# Altium integrated library NSC Converter Analog to Digital.IntLib: 246 symbols (part 5 of 7)
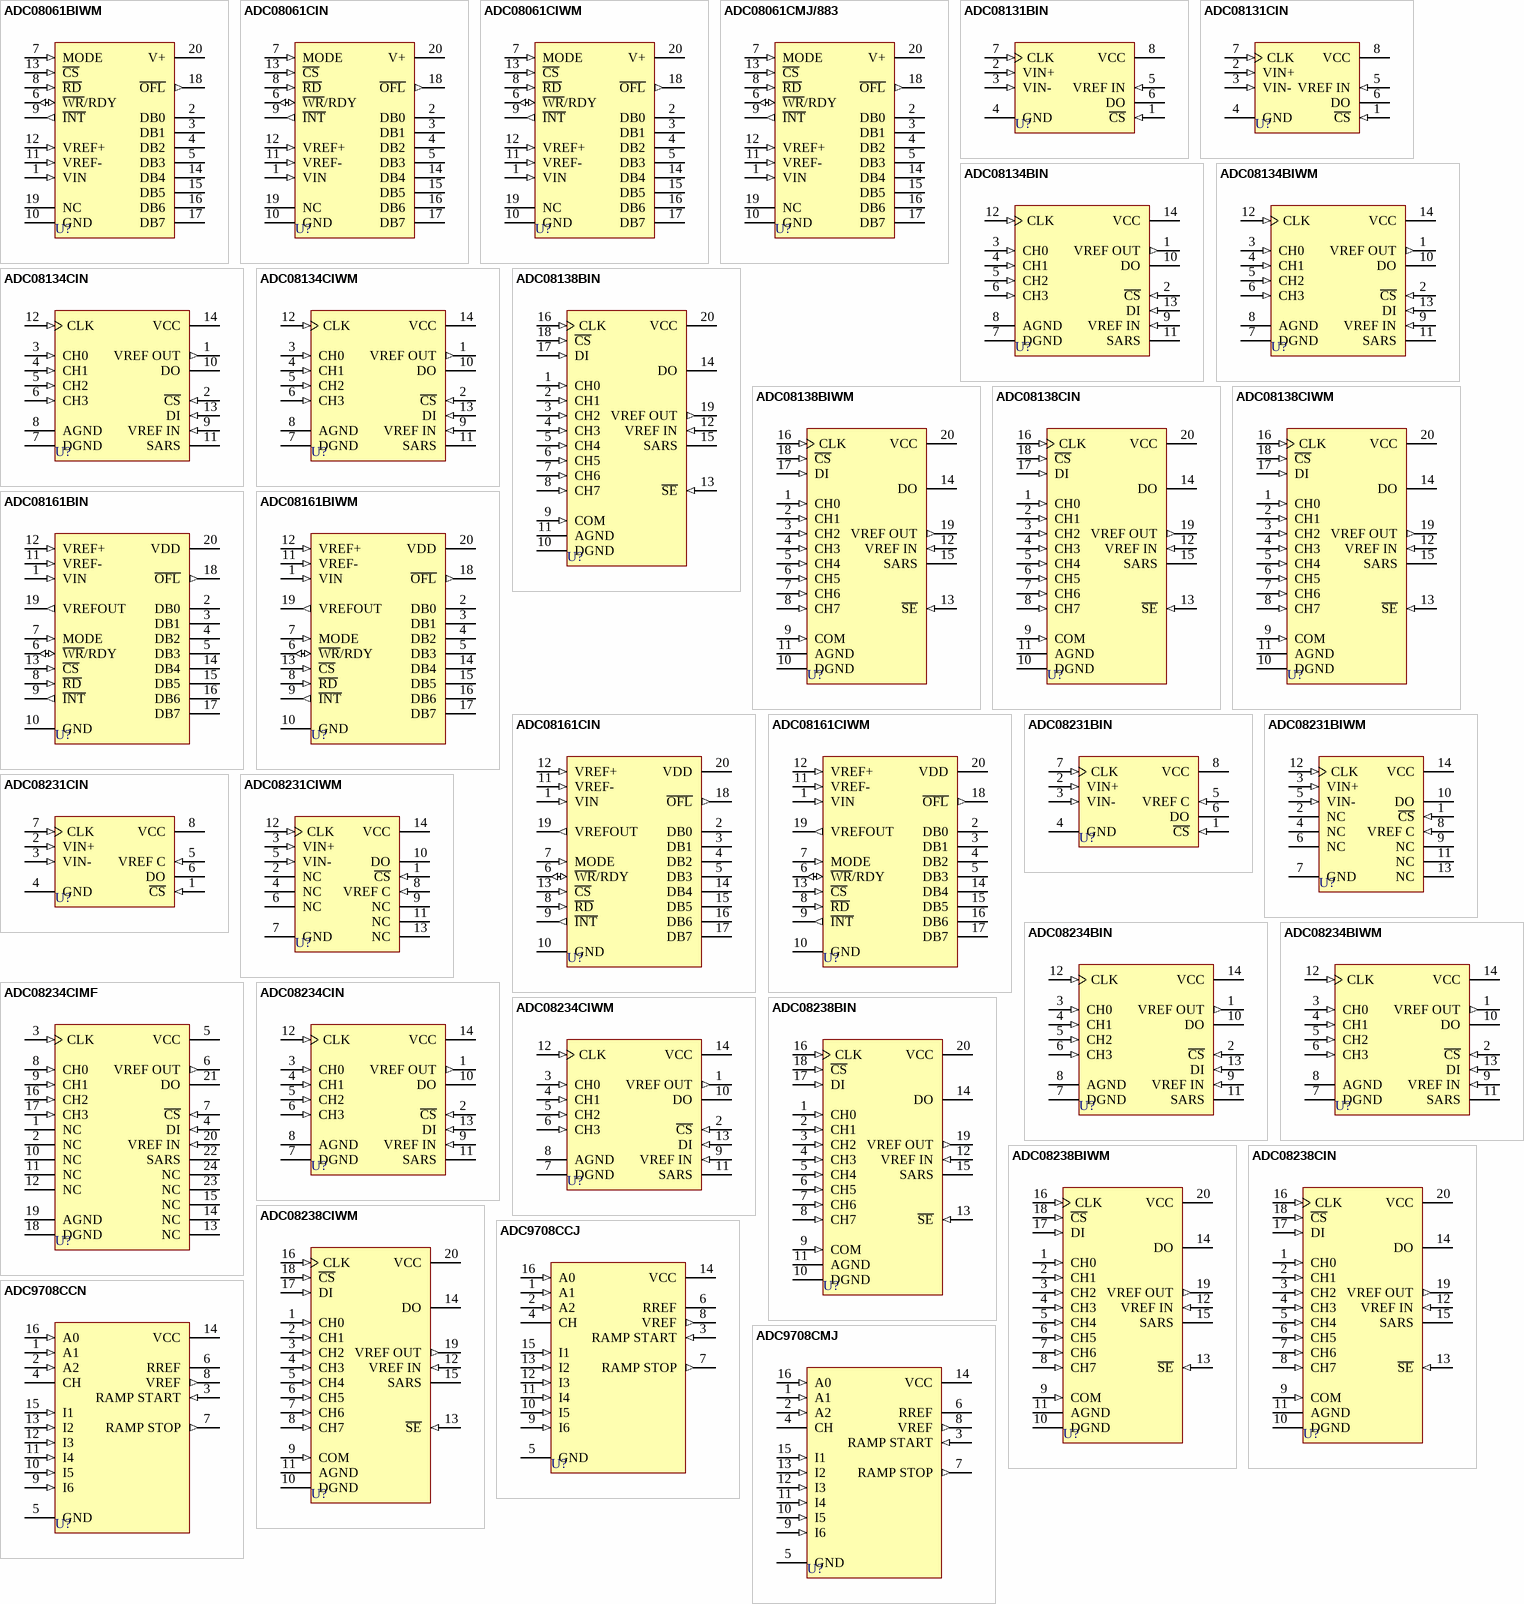
[diagram p13: symbols ADC08061BIWM to ADC9708CMJ]

## ADC08234BIWM
designator U?
8-Bit 2 µs Serial I/O A/D Converter with MUX, Reference and Track/Hold; ComponentAvailability: Obsolete; Published: 15-Apr-2002; LatestRevisionDate: 13-Apr-2006; LatestRevisionNote: IPC-7351 Footprint Added.; DatasheetVersion: Dec-1994; PackageVersion: 2000; PackageReference: M14B; Publisher: Altium Limited; PackageDescription: 14-Pin Small Outline Integrated Circuit 1.27 mm Pitch; Code_JEDEC: MS-013-AF; Code_IPC: SOIC127P1030-14; ComponentLink1Description: Manufacturer Link; ComponentLink1URL: http://www.national.com/; ComponentLink2Description: Datasheet; ComponentLink2URL: http://www.national.com/ds.cgi/DC/ADC08231.pdf; ComponentLink3Description: Discontinuation Notice; ComponentLink3URL: http://www.national.com/obs/obsolescence.txt; ComponentLink4Description: URL Link1; ComponentLink4URL: http://www.national.com/pf/DC/ADC08234.html
footprint M14B_N (SOIC, 14-Leads, Body 9x7.5mm, Pitch 1.27mm, IPC Medium Density)
footprint M14B_L (SOIC, 14-Leads, Body 9x7.5mm, Pitch 1.27mm, IPC High Density)
footprint M14B_M (SOIC, 14-Leads, Body 9x7.5mm, Pitch 1.27mm, IPC Low Density)
3D model M14B (14-Pin Small Outline Integrated Circuit 1.27 mm Pitch)
pins: 1 VREF OUT (out), 2 ~{CS} (in), 3 CH0 (in), 4 CH1 (in), 5 CH2 (in), 6 CH3 (in), 7 DGND (power), 8 AGND (power), 9 VREF IN (in), 10 DO (hiz), 11 SARS (hiz), 12 CLK (in), 13 DI (in), 14 VCC (power)

## ADC08234CIMF
designator U?
8-Bit 2 µs Serial I/O A/D Converter with MUX, Reference and Track/Hold; ComponentAvailability: Obsolete; Published: 15-Apr-2002; LatestRevisionDate: 06-Jun-2005; LatestRevisionNote: Stylized 3D Model Added.; DatasheetVersion: Dec-1994; PackageVersion: 2000; PackageReference: MTB24; Publisher: Altium Limited; PackageDescription: SSOP; 24 Leads; Body Width 5.6 mm; Pitch 0.65 mm; ComponentLink1Description: Manufacturer Link; ComponentLink1URL: http://www.national.com/; ComponentLink2Description: Datasheet; ComponentLink2URL: http://www.national.com/ds.cgi/DC/ADC08231.pdf; ComponentLink3Description: Discontinuation Notice; ComponentLink3URL: http://www.national.com/obs/obsolescence.txt; ComponentLink4Description: URL Link1; ComponentLink4URL: http://www.national.com/pf/DC/ADC08234.html
footprint MTB24 (SSOP; 24 Leads; Body Width 5.6 mm; Pitch 0.65 mm)
3D model MTB24 (SSOP; 24 Leads; Body Width 5.6 mm; Pitch 0.65 mm)
pins: 1 NC, 2 NC, 3 CLK (in), 4 DI (in), 5 VCC (power), 6 VREF OUT (out), 7 ~{CS} (in), 8 CH0 (in), 9 CH1 (in), 10 NC, 11 NC, 12 NC, 13 NC, 14 NC, 15 NC, 16 CH2 (in), 17 CH3 (in), 18 DGND (power), 19 AGND (power), 20 VREF IN (in), 21 DO (hiz), 22 SARS (hiz), 23 NC, 24 NC

## ADC08234CIN
designator U?
8-Bit 2 µs Serial I/O A/D Converter with MUX, Reference and Track/Hold; ComponentAvailability: Obsolete; Published: 15-Apr-2002; LatestRevisionDate: 06-Jun-2005; LatestRevisionNote: Stylized 3D Model Added.; DatasheetVersion: Dec-1994; PackageVersion: 2000; PackageReference: N14A; Publisher: Altium Limited; PackageDescription: DIP; 14 Leads; Row Spacing 7.62 mm; Pitch 2.54 mm; ComponentLink1Description: Manufacturer Link; ComponentLink1URL: http://www.national.com/; ComponentLink2Description: Datasheet; ComponentLink2URL: http://www.national.com/ds.cgi/DC/ADC08231.pdf; ComponentLink3Description: Discontinuation Notice; ComponentLink3URL: http://www.national.com/obs/obsolescence.txt; ComponentLink4Description: URL Link1; ComponentLink4URL: http://www.national.com/pf/DC/ADC08234.html
footprint N14A (DIP; 14 Leads; Row Spacing 7.62 mm; Pitch 2.54 mm)
3D model N14A (DIP; 14 Leads; Row Spacing 7.62 mm; Pitch 2.54 mm)
pins: 1 VREF OUT (out), 2 ~{CS} (in), 3 CH0 (in), 4 CH1 (in), 5 CH2 (in), 6 CH3 (in), 7 DGND (power), 8 AGND (power), 9 VREF IN (in), 10 DO (hiz), 11 SARS (hiz), 12 CLK (in), 13 DI (in), 14 VCC (power)

## ADC08234CIWM
designator U?
8-Bit 2 µs Serial I/O A/D Converter with MUX, Reference and Track/Hold; ComponentAvailability: Obsolete; Published: 15-Apr-2002; LatestRevisionDate: 13-Apr-2006; LatestRevisionNote: IPC-7351 Footprint Added.; DatasheetVersion: Dec-1994; PackageVersion: 2000; PackageReference: M14B; Publisher: Altium Limited; PackageDescription: 14-Pin Small Outline Integrated Circuit 1.27 mm Pitch; Code_JEDEC: MS-013-AF; Code_IPC: SOIC127P1030-14; ComponentLink1Description: Manufacturer Link; ComponentLink1URL: http://www.national.com/; ComponentLink2Description: Datasheet; ComponentLink2URL: http://www.national.com/ds.cgi/DC/ADC08231.pdf; ComponentLink3Description: Discontinuation Notice; ComponentLink3URL: http://www.national.com/obs/obsolescence.txt; ComponentLink4Description: URL Link1; ComponentLink4URL: http://www.national.com/pf/DC/ADC08234.html
footprint M14B_N (SOIC, 14-Leads, Body 9x7.5mm, Pitch 1.27mm, IPC Medium Density)
footprint M14B_L (SOIC, 14-Leads, Body 9x7.5mm, Pitch 1.27mm, IPC High Density)
footprint M14B_M (SOIC, 14-Leads, Body 9x7.5mm, Pitch 1.27mm, IPC Low Density)
3D model M14B (14-Pin Small Outline Integrated Circuit 1.27 mm Pitch)
pins: 1 VREF OUT (out), 2 ~{CS} (in), 3 CH0 (in), 4 CH1 (in), 5 CH2 (in), 6 CH3 (in), 7 DGND (power), 8 AGND (power), 9 VREF IN (in), 10 DO (hiz), 11 SARS (hiz), 12 CLK (in), 13 DI (in), 14 VCC (power)

## ADC08238BIN
designator U?
8-Bit 2 µs Serial I/O A/D Converter with MUX, Reference and Track/Hold; Published: 15-Apr-2002; LatestRevisionDate: 06-Jun-2005; LatestRevisionNote: Stylized 3D Model Added.; DatasheetVersion: Dec-1994; PackageVersion: 2000; PackageReference: N20A; Publisher: Altium Limited; PackageDescription: DIP; 20 Leads; Row Spacing 7.62 mm; Pitch 2.54 mm; Code_JEDEC: MS-001-AD; ComponentLink1Description: Manufacturer Link; ComponentLink1URL: http://www.national.com/; ComponentLink2Description: Datasheet; ComponentLink2URL: http://www.national.com/ds.cgi/DC/ADC08231.pdf; ComponentLink3Description: URL Link1; ComponentLink3URL: http://www.national.com/pf/DC/ADC08238.html
footprint N20A (DIP; 20 Leads; Row Spacing 7.62 mm; Pitch 2.54 mm)
3D model N20A (DIP; 20 Leads; Row Spacing 7.62 mm; Pitch 2.54 mm)
pins: 1 CH0 (in), 2 CH1 (in), 3 CH2 (in), 4 CH3 (in), 5 CH4 (in), 6 CH5 (in), 7 CH6 (in), 8 CH7 (in), 9 COM (in), 10 DGND (power), 11 AGND (power), 12 VREF IN (in), 13 ~{SE} (in), 14 DO (hiz), 15 SARS (hiz), 16 CLK (in), 17 DI (in), 18 ~{CS} (in), 19 VREF OUT (out), 20 VCC (power)

## ADC08238BIWM
designator U?
8-Bit 2 µs Serial I/O A/D Converter with MUX, Reference and Track/Hold; ComponentAvailability: Obsolete; Published: 15-Apr-2002; LatestRevisionDate: 13-Apr-2006; LatestRevisionNote: IPC-7351 Footprint Added.; DatasheetVersion: Dec-1994; PackageVersion: 2000; PackageReference: M20B; Publisher: Altium Limited; PackageDescription: 20-Pin Small Outline Integrated Circuit 1.27 mm Pitch; Code_JEDEC: MS-013-AC; Code_IPC: SOIC127P1030-20; ComponentLink1Description: Manufacturer Link; ComponentLink1URL: http://www.national.com/; ComponentLink2Description: Datasheet; ComponentLink2URL: http://www.national.com/ds.cgi/DC/ADC08231.pdf; ComponentLink3Description: Discontinuation Notice; ComponentLink3URL: http://www.national.com/obs/obsolescence.txt; ComponentLink4Description: URL Link1; ComponentLink4URL: http://www.national.com/pf/DC/ADC08238.html
footprint M20B_N (SOIC, 20-Leads, Body 12.8x7.5mm, Pitch 1.27mm, IPC Medium Density)
footprint M20B_L (SOIC, 20-Leads, Body 12.8x7.5mm, Pitch 1.27mm, IPC High Density)
footprint M20B_M (SOIC, 20-Leads, Body 12.8x7.5mm, Pitch 1.27mm, IPC Low Density)
3D model M20B (20-Pin Small Outline Integrated Circuit 1.27 mm Pitch)
pins: 1 CH0 (in), 2 CH1 (in), 3 CH2 (in), 4 CH3 (in), 5 CH4 (in), 6 CH5 (in), 7 CH6 (in), 8 CH7 (in), 9 COM (in), 10 DGND (power), 11 AGND (power), 12 VREF IN (in), 13 ~{SE} (in), 14 DO (hiz), 15 SARS (hiz), 16 CLK (in), 17 DI (in), 18 ~{CS} (in), 19 VREF OUT (out), 20 VCC (power)

## ADC08238CIN
designator U?
8-Bit 2 µs Serial I/O A/D Converter with MUX, Reference and Track/Hold; ComponentAvailability: Obsolete; Published: 15-Apr-2002; LatestRevisionDate: 06-Jun-2005; LatestRevisionNote: Stylized 3D Model Added.; DatasheetVersion: Dec-1994; PackageVersion: 2000; PackageReference: N20A; Publisher: Altium Limited; PackageDescription: DIP; 20 Leads; Row Spacing 7.62 mm; Pitch 2.54 mm; Code_JEDEC: MS-001-AD; ComponentLink1Description: Manufacturer Link; ComponentLink1URL: http://www.national.com/; ComponentLink2Description: Datasheet; ComponentLink2URL: http://www.national.com/ds.cgi/DC/ADC08231.pdf; ComponentLink3Description: Discontinuation Notice; ComponentLink3URL: http://www.national.com/obs/obsolescence.txt; ComponentLink4Description: URL Link1; ComponentLink4URL: http://www.national.com/pf/DC/ADC08238.html
footprint N20A (DIP; 20 Leads; Row Spacing 7.62 mm; Pitch 2.54 mm)
3D model N20A (DIP; 20 Leads; Row Spacing 7.62 mm; Pitch 2.54 mm)
pins: 1 CH0 (in), 2 CH1 (in), 3 CH2 (in), 4 CH3 (in), 5 CH4 (in), 6 CH5 (in), 7 CH6 (in), 8 CH7 (in), 9 COM (in), 10 DGND (power), 11 AGND (power), 12 VREF IN (in), 13 ~{SE} (in), 14 DO (hiz), 15 SARS (hiz), 16 CLK (in), 17 DI (in), 18 ~{CS} (in), 19 VREF OUT (out), 20 VCC (power)

## ADC08238CIWM
designator U?
8-Bit 2 µs Serial I/O A/D Converter with MUX, Reference and Track/Hold; ComponentAvailability: Obsolete; Published: 15-Apr-2002; LatestRevisionDate: 13-Apr-2006; LatestRevisionNote: IPC-7351 Footprint Added.; DatasheetVersion: Dec-1994; PackageVersion: 2000; PackageReference: M20B; Publisher: Altium Limited; PackageDescription: 20-Pin Small Outline Integrated Circuit 1.27 mm Pitch; Code_JEDEC: MS-013-AC; Code_IPC: SOIC127P1030-20; ComponentLink1Description: Manufacturer Link; ComponentLink1URL: http://www.national.com/; ComponentLink2Description: Datasheet; ComponentLink2URL: http://www.national.com/ds.cgi/DC/ADC08231.pdf; ComponentLink3Description: Discontinuation Notice; ComponentLink3URL: http://www.national.com/obs/obsolescence.txt; ComponentLink4Description: URL Link1; ComponentLink4URL: http://www.national.com/pf/DC/ADC08238.html
footprint M20B_N (SOIC, 20-Leads, Body 12.8x7.5mm, Pitch 1.27mm, IPC Medium Density)
footprint M20B_L (SOIC, 20-Leads, Body 12.8x7.5mm, Pitch 1.27mm, IPC High Density)
footprint M20B_M (SOIC, 20-Leads, Body 12.8x7.5mm, Pitch 1.27mm, IPC Low Density)
3D model M20B (20-Pin Small Outline Integrated Circuit 1.27 mm Pitch)
pins: 1 CH0 (in), 2 CH1 (in), 3 CH2 (in), 4 CH3 (in), 5 CH4 (in), 6 CH5 (in), 7 CH6 (in), 8 CH7 (in), 9 COM (in), 10 DGND (power), 11 AGND (power), 12 VREF IN (in), 13 ~{SE} (in), 14 DO (hiz), 15 SARS (hiz), 16 CLK (in), 17 DI (in), 18 ~{CS} (in), 19 VREF OUT (out), 20 VCC (power)

## ADC9708CCJ
designator U?
6-Channel 8-Bit µP-Compatible A/D Converter; ComponentAvailability: Obsolete; Published: 15-Apr-2002; LatestRevisionDate: 06-Jun-2005; LatestRevisionNote: Stylized 3D Model Added.; DatasheetVersion: Oct-1991; PackageVersion: 2000; PackageReference: J16A; Publisher: Altium Limited; PackageDescription: DIP; 16 Leads; Row Spacing 7.62 mm; Pitch 2.54 mm; ComponentLink1Description: Manufacturer Link; ComponentLink1URL: http://www.national.com/; ComponentLink2Description: Datasheet; ComponentLink2URL: http://www.national.com/ds.cgi/DC/ADC9708.pdf; ComponentLink3Description: Discontinuation Notice; ComponentLink3URL: http://www.national.com/obs/obsolescence.txt; ComponentLink4Description: URL Link1; ComponentLink4URL: http://www.national.com/pf/DC/ADC9708.html
footprint J16A (DIP; 16 Leads; Row Spacing 7.62 mm; Pitch 2.54 mm)
3D model N16E (DIP; 16 Leads; Row Spacing 7.62 mm; Pitch 2.54 mm)
pins: 1 A1 (in), 2 A2 (in), 3 RAMP START (in), 4 CH, 5 GND (power), 6 RREF, 7 RAMP STOP (out), 8 VREF (out), 9 I6 (in), 10 I5 (in), 11 I4 (in), 12 I3 (in), 13 I2 (in), 14 VCC (power), 15 I1 (in), 16 A0 (in)

## ADC9708CCN
designator U?
6-Channel 8-Bit µP-Compatible A/D Converter; ComponentAvailability: Obsolete; Published: 15-Apr-2002; LatestRevisionDate: 06-Jun-2005; LatestRevisionNote: Stylized 3D Model Added.; DatasheetVersion: Oct-1991; PackageVersion: 2000; PackageReference: N16E; Publisher: Altium Limited; PackageDescription: DIP; 16 Leads; Row Spacing 7.62 mm; Pitch 2.54 mm; ComponentLink1Description: Manufacturer Link; ComponentLink1URL: http://www.national.com/; ComponentLink2Description: Datasheet; ComponentLink2URL: http://www.national.com/ds.cgi/DC/ADC9708.pdf; ComponentLink3Description: Discontinuation Notice; ComponentLink3URL: http://www.national.com/obs/obsolescence.txt; ComponentLink4Description: URL Link1; ComponentLink4URL: http://www.national.com/pf/DC/ADC9708.html
footprint N16E (DIP; 16 Leads; Row Spacing 7.62 mm; Pitch 2.54 mm)
3D model N16E (DIP; 16 Leads; Row Spacing 7.62 mm; Pitch 2.54 mm)
pins: 1 A1 (in), 2 A2 (in), 3 RAMP START (in), 4 CH, 5 GND (power), 6 RREF, 7 RAMP STOP (out), 8 VREF (out), 9 I6 (in), 10 I5 (in), 11 I4 (in), 12 I3 (in), 13 I2 (in), 14 VCC (power), 15 I1 (in), 16 A0 (in)

## ADC9708CMJ
designator U?
6-Channel 8-Bit µP-Compatible A/D Converter; ComponentAvailability: Obsolete; Published: 15-Apr-2002; LatestRevisionDate: 06-Jun-2005; LatestRevisionNote: Stylized 3D Model Added.; DatasheetVersion: Oct-1991; PackageVersion: 2000; PackageReference: J16A; Publisher: Altium Limited; PackageDescription: DIP; 16 Leads; Row Spacing 7.62 mm; Pitch 2.54 mm; ComponentLink1Description: Manufacturer Link; ComponentLink1URL: http://www.national.com/; ComponentLink2Description: Datasheet; ComponentLink2URL: http://www.national.com/ds.cgi/DC/ADC9708.pdf; ComponentLink3Description: Discontinuation Notice; ComponentLink3URL: http://www.national.com/obs/obsolescence.txt; ComponentLink4Description: URL Link1; ComponentLink4URL: http://www.national.com/pf/DC/ADC9708.html
footprint J16A (DIP; 16 Leads; Row Spacing 7.62 mm; Pitch 2.54 mm)
3D model N16E (DIP; 16 Leads; Row Spacing 7.62 mm; Pitch 2.54 mm)
pins: 1 A1 (in), 2 A2 (in), 3 RAMP START (in), 4 CH, 5 GND (power), 6 RREF, 7 RAMP STOP (out), 8 VREF (out), 9 I6 (in), 10 I5 (in), 11 I4 (in), 12 I3 (in), 13 I2 (in), 14 VCC (power), 15 I1 (in), 16 A0 (in)

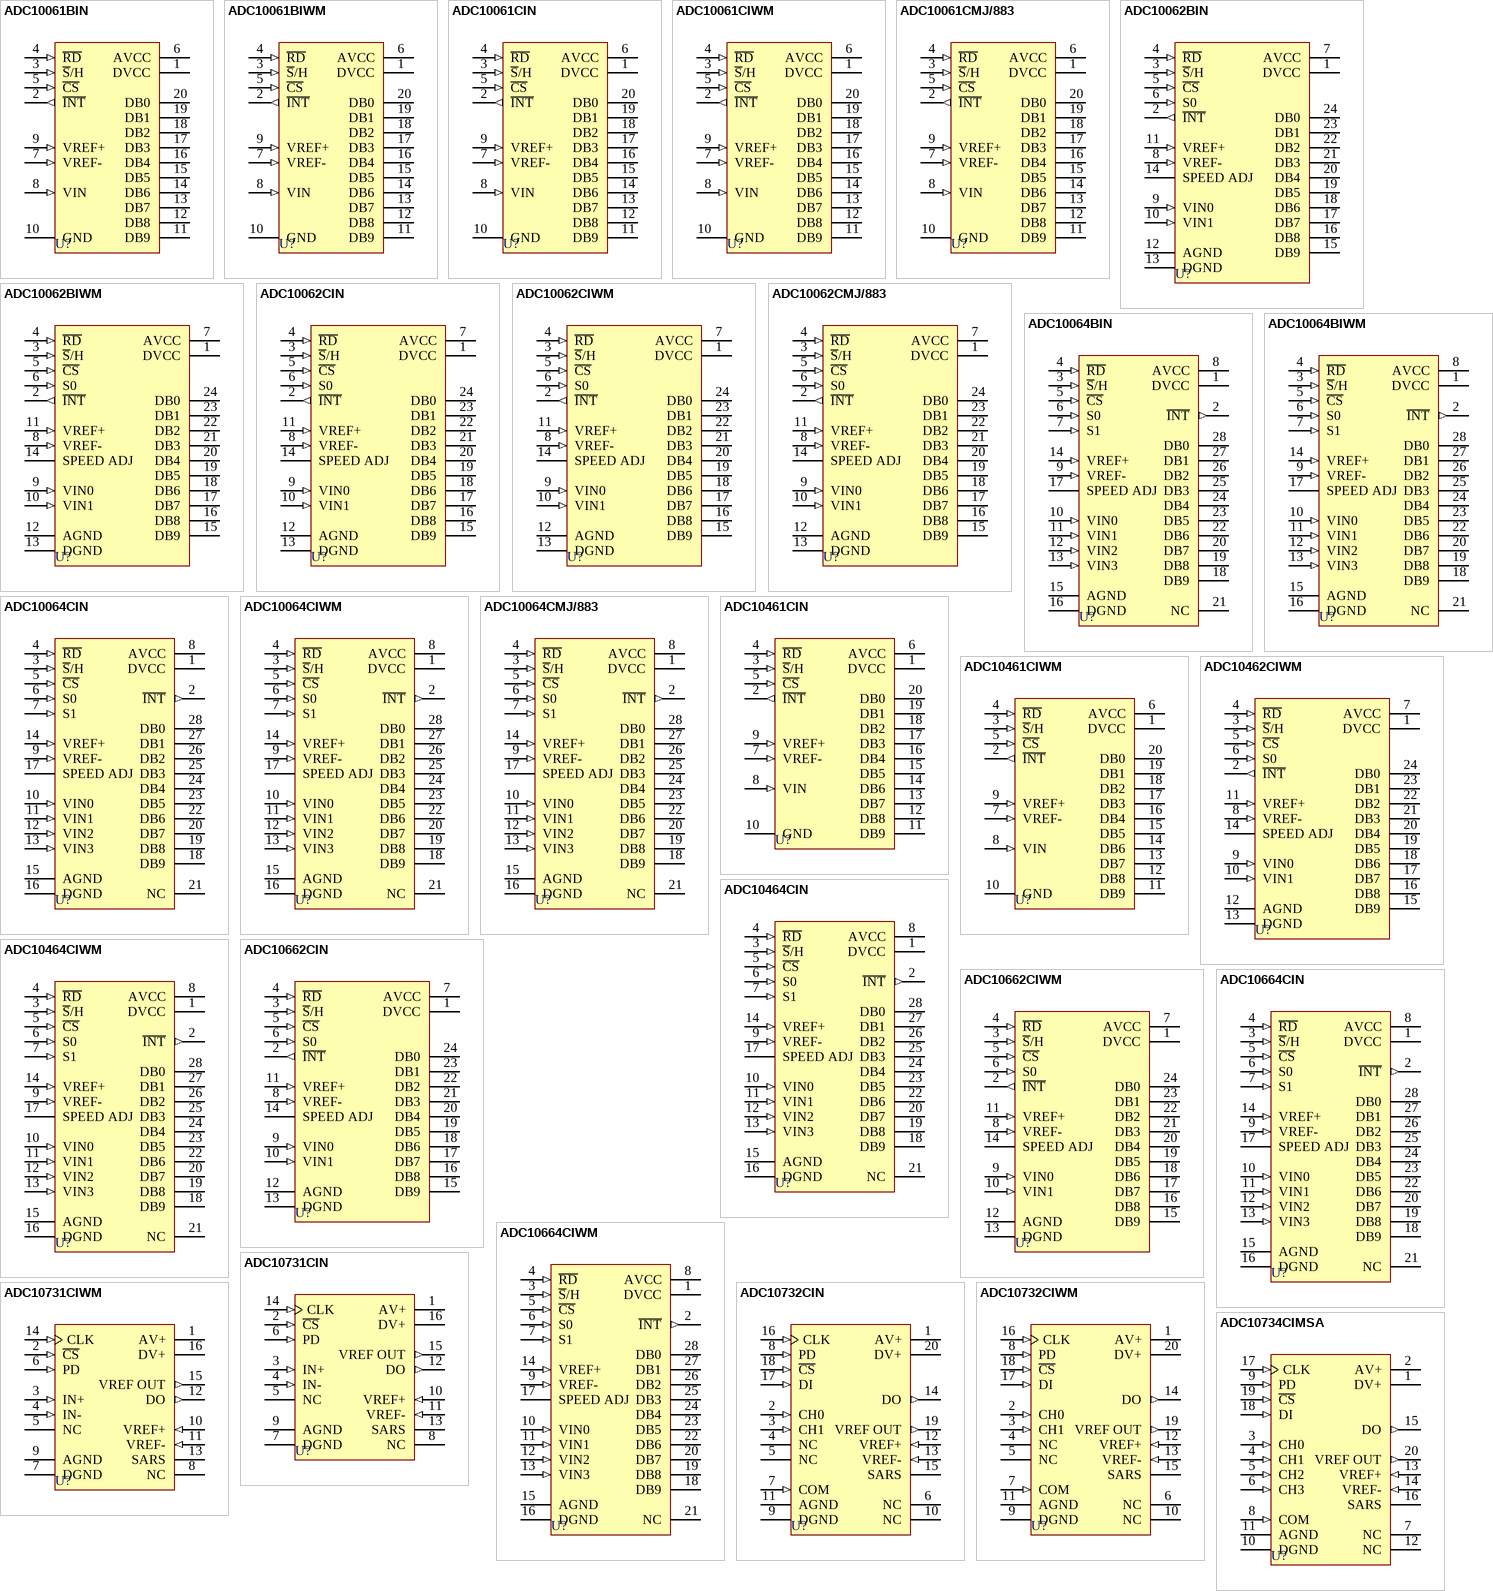
[diagram p6: symbols ADC10061BIN to ADC10734CIMSA]

## ADC10061BIN
designator U?
10-Bit 600 nS A/D Converter with Input Multiplexer and Sample/Hold; ComponentAvailability: Obsolete; Published: 15-Apr-2002; LatestRevisionDate: 06-Jun-2005; LatestRevisionNote: Stylized 3D Model Added.; DatasheetVersion: 1995; PackageVersion: 2000; PackageReference: N20A; Publisher: Altium Limited; PackageDescription: DIP; 20 Leads; Row Spacing 7.62 mm; Pitch 2.54 mm; Code_JEDEC: MS-001-AD; ComponentLink1Description: Manufacturer Link; ComponentLink1URL: http://www.national.com/; ComponentLink2Description: Datasheet; ComponentLink2URL: http://www.national.com/ds.cgi/DC/ADC10061.pdf; ComponentLink3Description: Discontinuation Notice; ComponentLink3URL: http://www.national.com/obs/obsolescence.txt; ComponentLink4Description: URL Link1; ComponentLink4URL: http://www.national.com/pf/DC/ADC10061.html
footprint N20A (DIP; 20 Leads; Row Spacing 7.62 mm; Pitch 2.54 mm)
3D model N20A (DIP; 20 Leads; Row Spacing 7.62 mm; Pitch 2.54 mm)
pins: 1 DVCC (power), 2 ~{INT} (out), 3 ~{S}/H (in), 4 ~{RD} (in), 5 ~{CS} (in), 6 AVCC (power), 7 VREF- (in), 8 VIN (in), 9 VREF+ (in), 10 GND (power), 11 DB9 (hiz), 12 DB8 (hiz), 13 DB7 (hiz), 14 DB6 (hiz), 15 DB5 (hiz), 16 DB4 (hiz), 17 DB3 (hiz), 18 DB2 (hiz), 19 DB1 (hiz), 20 DB0 (hiz)

## ADC10061BIWM
designator U?
10-Bit 600 nS A/D Converter with Input Multiplexer and Sample/Hold; ComponentAvailability: Obsolete; Published: 15-Apr-2002; LatestRevisionDate: 13-Apr-2006; LatestRevisionNote: IPC-7351 Footprint Added.; DatasheetVersion: 1995; PackageVersion: 2000; PackageReference: M20B; Publisher: Altium Limited; PackageDescription: 20-Pin Small Outline Integrated Circuit 1.27 mm Pitch; Code_JEDEC: MS-013-AC; Code_IPC: SOIC127P1030-20; ComponentLink1Description: Manufacturer Link; ComponentLink1URL: http://www.national.com/; ComponentLink2Description: Datasheet; ComponentLink2URL: http://www.national.com/ds.cgi/DC/ADC10061.pdf; ComponentLink3Description: Discontinuation Notice; ComponentLink3URL: http://www.national.com/obs/obsolescence.txt; ComponentLink4Description: URL Link1; ComponentLink4URL: http://www.national.com/pf/DC/ADC10061.html
footprint M20B_N (SOIC, 20-Leads, Body 12.8x7.5mm, Pitch 1.27mm, IPC Medium Density)
footprint M20B_L (SOIC, 20-Leads, Body 12.8x7.5mm, Pitch 1.27mm, IPC High Density)
footprint M20B_M (SOIC, 20-Leads, Body 12.8x7.5mm, Pitch 1.27mm, IPC Low Density)
3D model M20B (20-Pin Small Outline Integrated Circuit 1.27 mm Pitch)
pins: 1 DVCC (power), 2 ~{INT} (out), 3 ~{S}/H (in), 4 ~{RD} (in), 5 ~{CS} (in), 6 AVCC (power), 7 VREF- (in), 8 VIN (in), 9 VREF+ (in), 10 GND (power), 11 DB9 (hiz), 12 DB8 (hiz), 13 DB7 (hiz), 14 DB6 (hiz), 15 DB5 (hiz), 16 DB4 (hiz), 17 DB3 (hiz), 18 DB2 (hiz), 19 DB1 (hiz), 20 DB0 (hiz)

## ADC10061CIN
designator U?
10-Bit 600 nS A/D Converter with Input Multiplexer and Sample/Hold; ComponentAvailability: Obsolete; Published: 15-Apr-2002; LatestRevisionDate: 06-Jun-2005; LatestRevisionNote: Stylized 3D Model Added.; DatasheetVersion: 1995; PackageVersion: 2000; PackageReference: N20A; Publisher: Altium Limited; PackageDescription: DIP; 20 Leads; Row Spacing 7.62 mm; Pitch 2.54 mm; Code_JEDEC: MS-001-AD; ComponentLink1Description: Manufacturer Link; ComponentLink1URL: http://www.national.com/; ComponentLink2Description: Datasheet; ComponentLink2URL: http://www.national.com/ds.cgi/DC/ADC10061.pdf; ComponentLink3Description: Discontinuation Notice; ComponentLink3URL: http://www.national.com/obs/obsolescence.txt; ComponentLink4Description: URL Link1; ComponentLink4URL: http://www.national.com/pf/DC/ADC10061.html
footprint N20A (DIP; 20 Leads; Row Spacing 7.62 mm; Pitch 2.54 mm)
3D model N20A (DIP; 20 Leads; Row Spacing 7.62 mm; Pitch 2.54 mm)
pins: 1 DVCC (power), 2 ~{INT} (out), 3 ~{S}/H (in), 4 ~{RD} (in), 5 ~{CS} (in), 6 AVCC (power), 7 VREF- (in), 8 VIN (in), 9 VREF+ (in), 10 GND (power), 11 DB9 (hiz), 12 DB8 (hiz), 13 DB7 (hiz), 14 DB6 (hiz), 15 DB5 (hiz), 16 DB4 (hiz), 17 DB3 (hiz), 18 DB2 (hiz), 19 DB1 (hiz), 20 DB0 (hiz)

## ADC10061CIWM
designator U?
10-Bit 600 nS A/D Converter with Input Multiplexer and Sample/Hold; Published: 15-Apr-2002; LatestRevisionDate: 13-Apr-2006; LatestRevisionNote: IPC-7351 Footprint Added.; DatasheetVersion: Jun-1999; PackageVersion: 2000; PackageReference: M20B; Publisher: Altium Limited; PackageDescription: 20-Pin Small Outline Integrated Circuit 1.27 mm Pitch; Code_JEDEC: MS-013-AC; Code_IPC: SOIC127P1030-20; ComponentLink1Description: Manufacturer Link; ComponentLink1URL: http://www.national.com/; ComponentLink2Description: Datasheet; ComponentLink2URL: http://www.national.com/ds.cgi/DC/ADC10061.pdf; ComponentLink3Description: URL Link1; ComponentLink3URL: http://www.national.com/pf/DC/ADC10061.html
footprint M20B_N (SOIC, 20-Leads, Body 12.8x7.5mm, Pitch 1.27mm, IPC Medium Density)
footprint M20B_L (SOIC, 20-Leads, Body 12.8x7.5mm, Pitch 1.27mm, IPC High Density)
footprint M20B_M (SOIC, 20-Leads, Body 12.8x7.5mm, Pitch 1.27mm, IPC Low Density)
3D model M20B (20-Pin Small Outline Integrated Circuit 1.27 mm Pitch)
pins: 1 DVCC (power), 2 ~{INT} (out), 3 ~{S}/H (in), 4 ~{RD} (in), 5 ~{CS} (in), 6 AVCC (power), 7 VREF- (in), 8 VIN (in), 9 VREF+ (in), 10 GND (power), 11 DB9 (hiz), 12 DB8 (hiz), 13 DB7 (hiz), 14 DB6 (hiz), 15 DB5 (hiz), 16 DB4 (hiz), 17 DB3 (hiz), 18 DB2 (hiz), 19 DB1 (hiz), 20 DB0 (hiz)

## ADC10061CMJ/883
designator U?
10-Bit 600 nS A/D Converter with Input Multiplexer and Sample/Hold; Published: 15-Apr-2002; LatestRevisionDate: 06-Jun-2005; LatestRevisionNote: Stylized 3D Model Added.; DatasheetVersion: 1995; PackageVersion: 2000; PackageReference: J20A; Publisher: Altium Limited; PackageDescription: DIP; 20 Leads; Row Spacing 7.62 mm; Pitch 2.54 mm; Code_JEDEC: MS-015-AE; ComponentLink1Description: Manufacturer Link; ComponentLink1URL: http://www.national.com/; ComponentLink2Description: Datasheet; ComponentLink2URL: http://www.national.com/ds.cgi/DC/ADC10061.pdf; ComponentLink3Description: URL Link1; ComponentLink3URL: http://www.national.com/pf/DC/ADC10061.html
footprint J20A (DIP; 20 Leads; Row Spacing 7.62 mm; Pitch 2.54 mm)
3D model J20A (DIP; 20 Leads; Row Spacing 7.62 mm; Pitch 2.54 mm)
pins: 1 DVCC (power), 2 ~{INT} (out), 3 ~{S}/H (in), 4 ~{RD} (in), 5 ~{CS} (in), 6 AVCC (power), 7 VREF- (in), 8 VIN (in), 9 VREF+ (in), 10 GND (power), 11 DB9 (hiz), 12 DB8 (hiz), 13 DB7 (hiz), 14 DB6 (hiz), 15 DB5 (hiz), 16 DB4 (hiz), 17 DB3 (hiz), 18 DB2 (hiz), 19 DB1 (hiz), 20 DB0 (hiz)

## ADC10062BIN
designator U?
10-Bit 600 nS A/D Converter with Input Multiplexer and Sample/Hold; ComponentAvailability: Obsolete; Published: 15-Apr-2002; LatestRevisionDate: 06-Jun-2005; LatestRevisionNote: Stylized 3D Model Added.; DatasheetVersion: 1995; PackageVersion: 2000; PackageReference: N24A; Publisher: Altium Limited; PackageDescription: DIP; 24 Leads; Row Spacing 15.24 mm; Pitch 2.54 mm; ComponentLink1Description: Manufacturer Link; ComponentLink1URL: http://www.national.com/; ComponentLink2Description: Datasheet; ComponentLink2URL: http://www.national.com/ds.cgi/DC/ADC10061.pdf; ComponentLink3Description: Discontinuation Notice; ComponentLink3URL: http://www.national.com/obs/obsolescence.txt; ComponentLink4Description: URL Link1; ComponentLink4URL: http://www.national.com/pf/DC/ADC10062.html
footprint N24A (DIP; 24 Leads; Row Spacing 15.24 mm; Pitch 2.54 mm)
3D model J24A (DIP; 24 Leads; Row Spacing 15.24 mm; Pitch 2.54 mm)
pins: 1 DVCC (power), 2 ~{INT} (out), 3 ~{S}/H (in), 4 ~{RD} (in), 5 ~{CS} (in), 6 S0 (in), 7 AVCC (power), 8 VREF- (in), 9 VIN0 (in), 10 VIN1 (in), 11 VREF+ (in), 12 AGND (power), 13 DGND (power), 14 SPEED ADJ, 15 DB9 (hiz), 16 DB8 (hiz), 17 DB7 (hiz), 18 DB6 (hiz), 19 DB5 (hiz), 20 DB4 (hiz), 21 DB3 (hiz), 22 DB2 (hiz), 23 DB1 (hiz), 24 DB0 (hiz)

## ADC10062BIWM
designator U?
10-Bit 600 nS A/D Converter with Input Multiplexer and Sample/Hold; ComponentAvailability: Obsolete; Published: 15-Apr-2002; LatestRevisionDate: 13-Apr-2006; LatestRevisionNote: IPC-7351 Footprint Added.; DatasheetVersion: 1995; PackageVersion: 2000; PackageReference: M24B; Publisher: Altium Limited; PackageDescription: 24-Pin Small Outline Integrated Circuit 1.27 mm Pitch; ComponentLink1Description: Manufacturer Link; ComponentLink1URL: http://www.national.com/; ComponentLink2Description: Datasheet; ComponentLink2URL: http://www.national.com/ds.cgi/DC/ADC10061.pdf; ComponentLink3Description: Discontinuation Notice; ComponentLink3URL: http://www.national.com/obs/obsolescence.txt; ComponentLink4Description: URL Link1; ComponentLink4URL: http://www.national.com/pf/DC/ADC10062.html
footprint M24B_N (SOIC, 24-Leads, Body 15.4x7.5mm, Pitch 1.27mm, IPC Medium Density)
footprint M24B_L (SOIC, 24-Leads, Body 15.4x7.5mm, Pitch 1.27mm, IPC High Density)
footprint M24B_M (SOIC, 24-Leads, Body 15.4x7.5mm, Pitch 1.27mm, IPC Low Density)
3D model M24B (24-Pin Small Outline Integrated Circuit 1.27 mm Pitch)
pins: 1 DVCC (power), 2 ~{INT} (out), 3 ~{S}/H (in), 4 ~{RD} (in), 5 ~{CS} (in), 6 S0 (in), 7 AVCC (power), 8 VREF- (in), 9 VIN0 (in), 10 VIN1 (in), 11 VREF+ (in), 12 AGND (power), 13 DGND (power), 14 SPEED ADJ, 15 DB9 (hiz), 16 DB8 (hiz), 17 DB7 (hiz), 18 DB6 (hiz), 19 DB5 (hiz), 20 DB4 (hiz), 21 DB3 (hiz), 22 DB2 (hiz), 23 DB1 (hiz), 24 DB0 (hiz)

## ADC10062CIN
designator U?
10-Bit 600 nS A/D Converter with Input Multiplexer and Sample/Hold; ComponentAvailability: Obsolete; Published: 15-Apr-2002; LatestRevisionDate: 06-Jun-2005; LatestRevisionNote: Stylized 3D Model Added.; DatasheetVersion: 1995; PackageVersion: 2000; PackageReference: N24A; Publisher: Altium Limited; PackageDescription: DIP; 24 Leads; Row Spacing 15.24 mm; Pitch 2.54 mm; ComponentLink1Description: Manufacturer Link; ComponentLink1URL: http://www.national.com/; ComponentLink2Description: Datasheet; ComponentLink2URL: http://www.national.com/ds.cgi/DC/ADC10061.pdf; ComponentLink3Description: Discontinuation Notice; ComponentLink3URL: http://www.national.com/obs/obsolescence.txt; ComponentLink4Description: URL Link1; ComponentLink4URL: http://www.national.com/pf/DC/ADC10062.html
footprint N24A (DIP; 24 Leads; Row Spacing 15.24 mm; Pitch 2.54 mm)
3D model J24A (DIP; 24 Leads; Row Spacing 15.24 mm; Pitch 2.54 mm)
pins: 1 DVCC (power), 2 ~{INT} (out), 3 ~{S}/H (in), 4 ~{RD} (in), 5 ~{CS} (in), 6 S0 (in), 7 AVCC (power), 8 VREF- (in), 9 VIN0 (in), 10 VIN1 (in), 11 VREF+ (in), 12 AGND (power), 13 DGND (power), 14 SPEED ADJ, 15 DB9 (hiz), 16 DB8 (hiz), 17 DB7 (hiz), 18 DB6 (hiz), 19 DB5 (hiz), 20 DB4 (hiz), 21 DB3 (hiz), 22 DB2 (hiz), 23 DB1 (hiz), 24 DB0 (hiz)

## ADC10062CIWM
designator U?
10-Bit 600 nS A/D Converter with Input Multiplexer and Sample/Hold; Published: 15-Apr-2002; LatestRevisionDate: 13-Apr-2006; LatestRevisionNote: IPC-7351 Footprint Added.; DatasheetVersion: Jun-1999; PackageVersion: 2000; PackageReference: M24B; Publisher: Altium Limited; PackageDescription: 24-Pin Small Outline Integrated Circuit 1.27 mm Pitch; ComponentLink1Description: Manufacturer Link; ComponentLink1URL: http://www.national.com/; ComponentLink2Description: Datasheet; ComponentLink2URL: http://www.national.com/ds.cgi/DC/ADC10061.pdf; ComponentLink3Description: URL Link1; ComponentLink3URL: http://www.national.com/pf/DC/ADC10062.html
footprint M24B_N (SOIC, 24-Leads, Body 15.4x7.5mm, Pitch 1.27mm, IPC Medium Density)
footprint M24B_L (SOIC, 24-Leads, Body 15.4x7.5mm, Pitch 1.27mm, IPC High Density)
footprint M24B_M (SOIC, 24-Leads, Body 15.4x7.5mm, Pitch 1.27mm, IPC Low Density)
3D model M24B (24-Pin Small Outline Integrated Circuit 1.27 mm Pitch)
pins: 1 DVCC (power), 2 ~{INT} (out), 3 ~{S}/H (in), 4 ~{RD} (in), 5 ~{CS} (in), 6 S0 (in), 7 AVCC (power), 8 VREF- (in), 9 VIN0 (in), 10 VIN1 (in), 11 VREF+ (in), 12 AGND (power), 13 DGND (power), 14 SPEED ADJ, 15 DB9 (hiz), 16 DB8 (hiz), 17 DB7 (hiz), 18 DB6 (hiz), 19 DB5 (hiz), 20 DB4 (hiz), 21 DB3 (hiz), 22 DB2 (hiz), 23 DB1 (hiz), 24 DB0 (hiz)

## ADC10062CMJ/883
designator U?
10-Bit 600 nS A/D Converter with Input Multiplexer and Sample/Hold; Published: 15-Apr-2002; LatestRevisionDate: 06-Jun-2005; LatestRevisionNote: Stylized 3D Model Added.; DatasheetVersion: 1995; PackageVersion: 2000; PackageReference: J24A; Publisher: Altium Limited; PackageDescription: DIP; 24 Leads; Row Spacing 15.24 mm; Pitch 2.54 mm; ComponentLink1Description: Manufacturer Link; ComponentLink1URL: http://www.national.com/; ComponentLink2Description: Datasheet; ComponentLink2URL: http://www.national.com/ds.cgi/DC/ADC10061.pdf; ComponentLink3Description: URL Link1; ComponentLink3URL: http://www.national.com/pf/DC/ADC10062.html
footprint J24A (DIP; 24 Leads; Row Spacing 15.24 mm; Pitch 2.54 mm)
3D model J24A (DIP; 24 Leads; Row Spacing 15.24 mm; Pitch 2.54 mm)
pins: 1 DVCC (power), 2 ~{INT} (out), 3 ~{S}/H (in), 4 ~{RD} (in), 5 ~{CS} (in), 6 S0 (in), 7 AVCC (power), 8 VREF- (in), 9 VIN0 (in), 10 VIN1 (in), 11 VREF+ (in), 12 AGND (power), 13 DGND (power), 14 SPEED ADJ, 15 DB9 (hiz), 16 DB8 (hiz), 17 DB7 (hiz), 18 DB6 (hiz), 19 DB5 (hiz), 20 DB4 (hiz), 21 DB3 (hiz), 22 DB2 (hiz), 23 DB1 (hiz), 24 DB0 (hiz)

## ADC10064BIN
designator U?
10-Bit 600 nS A/D Converter with Input Multiplexer and Sample/Hold; ComponentAvailability: Obsolete; Published: 15-Apr-2002; LatestRevisionDate: 06-Jun-2005; LatestRevisionNote: Stylized 3D Model Added.; DatasheetVersion: 1995; PackageVersion: 2000; PackageReference: N28B; Publisher: Altium Limited; PackageDescription: DIP; 28 Leads; Row Spacing 15.24 mm; Pitch 2.54 mm; ComponentLink1Description: Manufacturer Link; ComponentLink1URL: http://www.national.com/; ComponentLink2Description: Datasheet; ComponentLink2URL: http://www.national.com/ds.cgi/DC/ADC10061.pdf; ComponentLink3Description: Discontinuation Notice; ComponentLink3URL: http://www.national.com/obs/obsolescence.txt; ComponentLink4Description: URL Link1; ComponentLink4URL: http://www.national.com/pf/DC/ADC10064.html
footprint N28B (DIP; 28 Leads; Row Spacing 15.24 mm; Pitch 2.54 mm)
3D model N28B (DIP; 28 Leads; Row Spacing 15.24 mm; Pitch 2.54 mm)
pins: 1 DVCC (power), 2 ~{INT} (out), 3 ~{S}/H (in), 4 ~{RD} (in), 5 ~{CS} (in), 6 S0 (in), 7 S1 (in), 8 AVCC (power), 9 VREF- (in), 10 VIN0 (in), 11 VIN1 (in), 12 VIN2 (in), 13 VIN3 (in), 14 VREF+ (in), 15 AGND (power), 16 DGND (power), 17 SPEED ADJ, 18 DB9 (hiz), 19 DB8 (hiz), 20 DB7 (hiz), 21 NC, 22 DB6 (hiz), 23 DB5 (hiz), 24 DB4 (hiz), 25 DB3 (hiz), 26 DB2 (hiz), 27 DB1 (hiz), 28 DB0 (hiz)

## ADC10064BIWM
designator U?
10-Bit 600 nS A/D Converter with Input Multiplexer and Sample/Hold; Published: 15-Apr-2002; LatestRevisionDate: 13-Apr-2006; LatestRevisionNote: IPC-7351 Footprint Added.; DatasheetVersion: 1995; PackageVersion: 2000; PackageReference: M28B; Publisher: Altium Limited; PackageDescription: 28-Pin Small Outline Integrated Circuit 1.27 mm Pitch; ComponentLink1Description: Manufacturer Link; ComponentLink1URL: http://www.national.com/; ComponentLink2Description: Datasheet; ComponentLink2URL: http://www.national.com/ds.cgi/DC/ADC10061.pdf; ComponentLink3Description: URL Link1; ComponentLink3URL: http://www.national.com/pf/DC/ADC10064.html
footprint M28B_N (SOIC, 28-Leads, Body 17.9x7.5mm, Pitch 1.27mm, IPC Medium Density)
footprint M28B_L (SOIC, 28-Leads, Body 17.9x7.5mm, Pitch 1.27mm, IPC High Density)
footprint M28B_M (SOIC, 28-Leads, Body 17.9x7.5mm, Pitch 1.27mm, IPC Low Density)
3D model M28B (28-Pin Small Outline Integrated Circuit 1.27 mm Pitch)
pins: 1 DVCC (power), 2 ~{INT} (out), 3 ~{S}/H (in), 4 ~{RD} (in), 5 ~{CS} (in), 6 S0 (in), 7 S1 (in), 8 AVCC (power), 9 VREF- (in), 10 VIN0 (in), 11 VIN1 (in), 12 VIN2 (in), 13 VIN3 (in), 14 VREF+ (in), 15 AGND (power), 16 DGND (power), 17 SPEED ADJ, 18 DB9 (hiz), 19 DB8 (hiz), 20 DB7 (hiz), 21 NC, 22 DB6 (hiz), 23 DB5 (hiz), 24 DB4 (hiz), 25 DB3 (hiz), 26 DB2 (hiz), 27 DB1 (hiz), 28 DB0 (hiz)

## ADC10064CIN
designator U?
10-Bit 600 nS A/D Converter with Input Multiplexer and Sample/Hold; ComponentAvailability: Obsolete; Published: 15-Apr-2002; LatestRevisionDate: 06-Jun-2005; LatestRevisionNote: Stylized 3D Model Added.; DatasheetVersion: 1995; PackageVersion: 2000; PackageReference: N28B; Publisher: Altium Limited; PackageDescription: DIP; 28 Leads; Row Spacing 15.24 mm; Pitch 2.54 mm; ComponentLink1Description: Manufacturer Link; ComponentLink1URL: http://www.national.com/; ComponentLink2Description: Datasheet; ComponentLink2URL: http://www.national.com/ds.cgi/DC/ADC10061.pdf; ComponentLink3Description: Discontinuation Notice; ComponentLink3URL: http://www.national.com/obs/obsolescence.txt; ComponentLink4Description: URL Link1; ComponentLink4URL: http://www.national.com/pf/DC/ADC10064.html
footprint N28B (DIP; 28 Leads; Row Spacing 15.24 mm; Pitch 2.54 mm)
3D model N28B (DIP; 28 Leads; Row Spacing 15.24 mm; Pitch 2.54 mm)
pins: 1 DVCC (power), 2 ~{INT} (out), 3 ~{S}/H (in), 4 ~{RD} (in), 5 ~{CS} (in), 6 S0 (in), 7 S1 (in), 8 AVCC (power), 9 VREF- (in), 10 VIN0 (in), 11 VIN1 (in), 12 VIN2 (in), 13 VIN3 (in), 14 VREF+ (in), 15 AGND (power), 16 DGND (power), 17 SPEED ADJ, 18 DB9 (hiz), 19 DB8 (hiz), 20 DB7 (hiz), 21 NC, 22 DB6 (hiz), 23 DB5 (hiz), 24 DB4 (hiz), 25 DB3 (hiz), 26 DB2 (hiz), 27 DB1 (hiz), 28 DB0 (hiz)

## ADC10064CIWM
designator U?
10-Bit 600 nS A/D Converter with Input Multiplexer and Sample/Hold; Published: 15-Apr-2002; LatestRevisionDate: 13-Apr-2006; LatestRevisionNote: IPC-7351 Footprint Added.; DatasheetVersion: Jun-1999; PackageVersion: 2000; PackageReference: M28B; Publisher: Altium Limited; PackageDescription: 28-Pin Small Outline Integrated Circuit 1.27 mm Pitch; ComponentLink1Description: Manufacturer Link; ComponentLink1URL: http://www.national.com/; ComponentLink2Description: Datasheet; ComponentLink2URL: http://www.national.com/ds.cgi/DC/ADC10061.pdf; ComponentLink3Description: URL Link1; ComponentLink3URL: http://www.national.com/pf/DC/ADC10064.html
footprint M28B_N (SOIC, 28-Leads, Body 17.9x7.5mm, Pitch 1.27mm, IPC Medium Density)
footprint M28B_L (SOIC, 28-Leads, Body 17.9x7.5mm, Pitch 1.27mm, IPC High Density)
footprint M28B_M (SOIC, 28-Leads, Body 17.9x7.5mm, Pitch 1.27mm, IPC Low Density)
3D model M28B (28-Pin Small Outline Integrated Circuit 1.27 mm Pitch)
pins: 1 DVCC (power), 2 ~{INT} (out), 3 ~{S}/H (in), 4 ~{RD} (in), 5 ~{CS} (in), 6 S0 (in), 7 S1 (in), 8 AVCC (power), 9 VREF- (in), 10 VIN0 (in), 11 VIN1 (in), 12 VIN2 (in), 13 VIN3 (in), 14 VREF+ (in), 15 AGND (power), 16 DGND (power), 17 SPEED ADJ, 18 DB9 (hiz), 19 DB8 (hiz), 20 DB7 (hiz), 21 NC, 22 DB6 (hiz), 23 DB5 (hiz), 24 DB4 (hiz), 25 DB3 (hiz), 26 DB2 (hiz), 27 DB1 (hiz), 28 DB0 (hiz)

## ADC10064CMJ/883
designator U?
10-Bit 600 nS A/D Converter with Input Multiplexer and Sample/Hold; Published: 15-Apr-2002; LatestRevisionDate: 06-Jun-2005; LatestRevisionNote: Stylized 3D Model Added.; DatasheetVersion: 1995; PackageVersion: 2000; PackageReference: J28A; Publisher: Altium Limited; PackageDescription: DIP; 28 Leads; Row Spacing 15.24 mm; Pitch 2.54 mm; ComponentLink1Description: Manufacturer Link; ComponentLink1URL: http://www.national.com/; ComponentLink2Description: Datasheet; ComponentLink2URL: http://www.national.com/ds.cgi/DC/ADC10061.pdf; ComponentLink3Description: URL Link1; ComponentLink3URL: http://www.national.com/pf/DC/ADC10064.html
footprint J28A (DIP; 28 Leads; Row Spacing 15.24 mm; Pitch 2.54 mm)
3D model J28A (DIP; 28 Leads; Row Spacing 15.24 mm; Pitch 2.54 mm)
pins: 1 DVCC (power), 2 ~{INT} (out), 3 ~{S}/H (in), 4 ~{RD} (in), 5 ~{CS} (in), 6 S0 (in), 7 S1 (in), 8 AVCC (power), 9 VREF- (in), 10 VIN0 (in), 11 VIN1 (in), 12 VIN2 (in), 13 VIN3 (in), 14 VREF+ (in), 15 AGND (power), 16 DGND (power), 17 SPEED ADJ, 18 DB9 (hiz), 19 DB8 (hiz), 20 DB7 (hiz), 21 NC, 22 DB6 (hiz), 23 DB5 (hiz), 24 DB4 (hiz), 25 DB3 (hiz), 26 DB2 (hiz), 27 DB1 (hiz), 28 DB0 (hiz)

## ADC10461CIN
designator U?
10-Bit 600 nS A/D Converter with Input Multiplexer and Sample/Hold; ComponentAvailability: Obsolete; Published: 15-Apr-2002; LatestRevisionDate: 06-Jun-2005; LatestRevisionNote: Stylized 3D Model Added.; DatasheetVersion: Jan-1995; PackageVersion: 2000; PackageReference: N20A; Publisher: Altium Limited; PackageDescription: DIP; 20 Leads; Row Spacing 7.62 mm; Pitch 2.54 mm; Code_JEDEC: MS-001-AD; ComponentLink1Description: Manufacturer Link; ComponentLink1URL: http://www.national.com/; ComponentLink2Description: Discontinuation Notice; ComponentLink2URL: http://www.national.com/obs/obsolescence.txt; ComponentLink3Description: URL Link1; ComponentLink3URL: http://www.national.com/pf/DC/ADC10461.html
footprint N20A (DIP; 20 Leads; Row Spacing 7.62 mm; Pitch 2.54 mm)
3D model N20A (DIP; 20 Leads; Row Spacing 7.62 mm; Pitch 2.54 mm)
pins: 1 DVCC (power), 2 ~{INT} (out), 3 ~{S}/H (in), 4 ~{RD} (in), 5 ~{CS} (in), 6 AVCC (power), 7 VREF- (in), 8 VIN (in), 9 VREF+ (in), 10 GND (power), 11 DB9 (hiz), 12 DB8 (hiz), 13 DB7 (hiz), 14 DB6 (hiz), 15 DB5 (hiz), 16 DB4 (hiz), 17 DB3 (hiz), 18 DB2 (hiz), 19 DB1 (hiz), 20 DB0 (hiz)

## ADC10461CIWM
designator U?
10-Bit 600 nS A/D Converter with Input Multiplexer and Sample/Hold; Published: 15-Apr-2002; LatestRevisionDate: 13-Apr-2006; LatestRevisionNote: IPC-7351 Footprint Added.; DatasheetVersion: Jun-1999; PackageVersion: 2000; PackageReference: M20B; Publisher: Altium Limited; PackageDescription: 20-Pin Small Outline Integrated Circuit 1.27 mm Pitch; Code_JEDEC: MS-013-AC; Code_IPC: SOIC127P1030-20; ComponentLink1Description: Manufacturer Link; ComponentLink1URL: http://www.national.com/; ComponentLink2Description: Datasheet; ComponentLink2URL: http://www.national.com/ds.cgi/DC/ADC10461.pdf; ComponentLink3Description: URL Link1; ComponentLink3URL: http://www.national.com/pf/DC/ADC10461.html
footprint M20B_N (SOIC, 20-Leads, Body 12.8x7.5mm, Pitch 1.27mm, IPC Medium Density)
footprint M20B_L (SOIC, 20-Leads, Body 12.8x7.5mm, Pitch 1.27mm, IPC High Density)
footprint M20B_M (SOIC, 20-Leads, Body 12.8x7.5mm, Pitch 1.27mm, IPC Low Density)
3D model M20B (20-Pin Small Outline Integrated Circuit 1.27 mm Pitch)
pins: 1 DVCC (power), 2 ~{INT} (out), 3 ~{S}/H (in), 4 ~{RD} (in), 5 ~{CS} (in), 6 AVCC (power), 7 VREF- (in), 8 VIN (in), 9 VREF+ (in), 10 GND (power), 11 DB9 (hiz), 12 DB8 (hiz), 13 DB7 (hiz), 14 DB6 (hiz), 15 DB5 (hiz), 16 DB4 (hiz), 17 DB3 (hiz), 18 DB2 (hiz), 19 DB1 (hiz), 20 DB0 (hiz)

## ADC10462CIWM
designator U?
10-Bit 600 nS A/D Converter with Input Multiplexer and Sample/Hold; Published: 15-Apr-2002; LatestRevisionDate: 13-Apr-2006; LatestRevisionNote: IPC-7351 Footprint Added.; DatasheetVersion: Jun-1999; PackageVersion: 2000; PackageReference: M24B; Publisher: Altium Limited; PackageDescription: 24-Pin Small Outline Integrated Circuit 1.27 mm Pitch; ComponentLink1Description: Manufacturer Link; ComponentLink1URL: http://www.national.com/; ComponentLink2Description: Datasheet; ComponentLink2URL: http://www.national.com/ds.cgi/DC/ADC10461.pdf; ComponentLink3Description: URL Link1; ComponentLink3URL: http://www.national.com/pf/DC/ADC10462.html
footprint M24B_N (SOIC, 24-Leads, Body 15.4x7.5mm, Pitch 1.27mm, IPC Medium Density)
footprint M24B_L (SOIC, 24-Leads, Body 15.4x7.5mm, Pitch 1.27mm, IPC High Density)
footprint M24B_M (SOIC, 24-Leads, Body 15.4x7.5mm, Pitch 1.27mm, IPC Low Density)
3D model M24B (24-Pin Small Outline Integrated Circuit 1.27 mm Pitch)
pins: 1 DVCC (power), 2 ~{INT} (out), 3 ~{S}/H (in), 4 ~{RD} (in), 5 ~{CS} (in), 6 S0 (in), 7 AVCC (power), 8 VREF- (in), 9 VIN0 (in), 10 VIN1 (in), 11 VREF+ (in), 12 AGND (power), 13 DGND (power), 14 SPEED ADJ, 15 DB9 (hiz), 16 DB8 (hiz), 17 DB7 (hiz), 18 DB6 (hiz), 19 DB5 (hiz), 20 DB4 (hiz), 21 DB3 (hiz), 22 DB2 (hiz), 23 DB1 (hiz), 24 DB0 (hiz)

## ADC10464CIN
designator U?
10-Bit 600 nS A/D Converter with Input Multiplexer and Sample/Hold; ComponentAvailability: Obsolete; Published: 15-Apr-2002; LatestRevisionDate: 06-Jun-2005; LatestRevisionNote: Stylized 3D Model Added.; DatasheetVersion: Jan-1995; PackageVersion: 2000; PackageReference: N28B; Publisher: Altium Limited; PackageDescription: DIP; 28 Leads; Row Spacing 15.24 mm; Pitch 2.54 mm; ComponentLink1Description: Manufacturer Link; ComponentLink1URL: http://www.national.com/; ComponentLink2Description: Discontinuation Notice; ComponentLink2URL: http://www.national.com/obs/obsolescence.txt; ComponentLink3Description: URL Link1; ComponentLink3URL: http://www.national.com/pf/DC/ADC10464.html
footprint N28B (DIP; 28 Leads; Row Spacing 15.24 mm; Pitch 2.54 mm)
3D model N28B (DIP; 28 Leads; Row Spacing 15.24 mm; Pitch 2.54 mm)
pins: 1 DVCC (power), 2 ~{INT} (out), 3 ~{S}/H (in), 4 ~{RD} (in), 5 ~{CS} (in), 6 S0 (in), 7 S1 (in), 8 AVCC (power), 9 VREF- (in), 10 VIN0 (in), 11 VIN1 (in), 12 VIN2 (in), 13 VIN3 (in), 14 VREF+ (in), 15 AGND (power), 16 DGND (power), 17 SPEED ADJ, 18 DB9 (hiz), 19 DB8 (hiz), 20 DB7 (hiz), 21 NC, 22 DB6 (hiz), 23 DB5 (hiz), 24 DB4 (hiz), 25 DB3 (hiz), 26 DB2 (hiz), 27 DB1 (hiz), 28 DB0 (hiz)

## ADC10464CIWM
designator U?
10-Bit 600 nS A/D Converter with Input Multiplexer and Sample/Hold; Published: 15-Apr-2002; LatestRevisionDate: 13-Apr-2006; LatestRevisionNote: IPC-7351 Footprint Added.; DatasheetVersion: Jun-1999; PackageVersion: 2000; PackageReference: M28B; Publisher: Altium Limited; PackageDescription: 28-Pin Small Outline Integrated Circuit 1.27 mm Pitch; ComponentLink1Description: Manufacturer Link; ComponentLink1URL: http://www.national.com/; ComponentLink2Description: Datasheet; ComponentLink2URL: http://www.national.com/ds.cgi/DC/ADC10461.pdf; ComponentLink3Description: URL Link1; ComponentLink3URL: http://www.national.com/pf/DC/ADC10464.html
footprint M28B_N (SOIC, 28-Leads, Body 17.9x7.5mm, Pitch 1.27mm, IPC Medium Density)
footprint M28B_L (SOIC, 28-Leads, Body 17.9x7.5mm, Pitch 1.27mm, IPC High Density)
footprint M28B_M (SOIC, 28-Leads, Body 17.9x7.5mm, Pitch 1.27mm, IPC Low Density)
3D model M28B (28-Pin Small Outline Integrated Circuit 1.27 mm Pitch)
pins: 1 DVCC (power), 2 ~{INT} (out), 3 ~{S}/H (in), 4 ~{RD} (in), 5 ~{CS} (in), 6 S0 (in), 7 S1 (in), 8 AVCC (power), 9 VREF- (in), 10 VIN0 (in), 11 VIN1 (in), 12 VIN2 (in), 13 VIN3 (in), 14 VREF+ (in), 15 AGND (power), 16 DGND (power), 17 SPEED ADJ, 18 DB9 (hiz), 19 DB8 (hiz), 20 DB7 (hiz), 21 NC, 22 DB6 (hiz), 23 DB5 (hiz), 24 DB4 (hiz), 25 DB3 (hiz), 26 DB2 (hiz), 27 DB1 (hiz), 28 DB0 (hiz)

## ADC10662CIN
designator U?
10-Bit 600 nS A/D Converter with Input Multiplexer and Sample/Hold; ComponentAvailability: Obsolete; Published: 15-Apr-2002; LatestRevisionDate: 06-Jun-2005; LatestRevisionNote: Stylized 3D Model Added.; DatasheetVersion: Jan-1995; PackageVersion: 2000; PackageReference: N24A; Publisher: Altium Limited; PackageDescription: DIP; 24 Leads; Row Spacing 15.24 mm; Pitch 2.54 mm; ComponentLink1Description: Manufacturer Link; ComponentLink1URL: http://www.national.com/; ComponentLink2Description: Discontinuation Notice; ComponentLink2URL: http://www.national.com/obs/obsolescence.txt; ComponentLink3Description: URL Link1; ComponentLink3URL: http://www.national.com/pf/DC/ADC10662.html
footprint N24A (DIP; 24 Leads; Row Spacing 15.24 mm; Pitch 2.54 mm)
3D model J24A (DIP; 24 Leads; Row Spacing 15.24 mm; Pitch 2.54 mm)
pins: 1 DVCC (power), 2 ~{INT} (out), 3 ~{S}/H (in), 4 ~{RD} (in), 5 ~{CS} (in), 6 S0 (in), 7 AVCC (power), 8 VREF- (in), 9 VIN0 (in), 10 VIN1 (in), 11 VREF+ (in), 12 AGND (power), 13 DGND (power), 14 SPEED ADJ, 15 DB9 (hiz), 16 DB8 (hiz), 17 DB7 (hiz), 18 DB6 (hiz), 19 DB5 (hiz), 20 DB4 (hiz), 21 DB3 (hiz), 22 DB2 (hiz), 23 DB1 (hiz), 24 DB0 (hiz)

## ADC10662CIWM
designator U?
10-Bit 600 nS A/D Converter with Input Multiplexer and Sample/Hold; Published: 15-Apr-2002; LatestRevisionDate: 13-Apr-2006; LatestRevisionNote: IPC-7351 Footprint Added.; DatasheetVersion: Jun-1999; PackageVersion: 2000; PackageReference: M24B; Publisher: Altium Limited; PackageDescription: 24-Pin Small Outline Integrated Circuit 1.27 mm Pitch; ComponentLink1Description: Manufacturer Link; ComponentLink1URL: http://www.national.com/; ComponentLink2Description: Datasheet; ComponentLink2URL: http://www.national.com/ds.cgi/DC/ADC10662.pdf; ComponentLink3Description: URL Link1; ComponentLink3URL: http://www.national.com/pf/DC/ADC10662.html
footprint M24B_N (SOIC, 24-Leads, Body 15.4x7.5mm, Pitch 1.27mm, IPC Medium Density)
footprint M24B_L (SOIC, 24-Leads, Body 15.4x7.5mm, Pitch 1.27mm, IPC High Density)
footprint M24B_M (SOIC, 24-Leads, Body 15.4x7.5mm, Pitch 1.27mm, IPC Low Density)
3D model M24B (24-Pin Small Outline Integrated Circuit 1.27 mm Pitch)
pins: 1 DVCC (power), 2 ~{INT} (out), 3 ~{S}/H (in), 4 ~{RD} (in), 5 ~{CS} (in), 6 S0 (in), 7 AVCC (power), 8 VREF- (in), 9 VIN0 (in), 10 VIN1 (in), 11 VREF+ (in), 12 AGND (power), 13 DGND (power), 14 SPEED ADJ, 15 DB9 (hiz), 16 DB8 (hiz), 17 DB7 (hiz), 18 DB6 (hiz), 19 DB5 (hiz), 20 DB4 (hiz), 21 DB3 (hiz), 22 DB2 (hiz), 23 DB1 (hiz), 24 DB0 (hiz)

## ADC10664CIN
designator U?
10-Bit 600 nS A/D Converter with Input Multiplexer and Sample/Hold; ComponentAvailability: Obsolete; Published: 15-Apr-2002; LatestRevisionDate: 06-Jun-2005; LatestRevisionNote: Stylized 3D Model Added.; DatasheetVersion: Jan-1995; PackageVersion: 2000; PackageReference: N28B; Publisher: Altium Limited; PackageDescription: DIP; 28 Leads; Row Spacing 15.24 mm; Pitch 2.54 mm; ComponentLink1Description: Manufacturer Link; ComponentLink1URL: http://www.national.com/; ComponentLink2Description: Discontinuation Notice; ComponentLink2URL: http://www.national.com/obs/obsolescence.txt; ComponentLink3Description: URL Link1; ComponentLink3URL: http://www.national.com/pf/DC/ADC10664.html
footprint N28B (DIP; 28 Leads; Row Spacing 15.24 mm; Pitch 2.54 mm)
3D model N28B (DIP; 28 Leads; Row Spacing 15.24 mm; Pitch 2.54 mm)
pins: 1 DVCC (power), 2 ~{INT} (out), 3 ~{S}/H (in), 4 ~{RD} (in), 5 ~{CS} (in), 6 S0 (in), 7 S1 (in), 8 AVCC (power), 9 VREF- (in), 10 VIN0 (in), 11 VIN1 (in), 12 VIN2 (in), 13 VIN3 (in), 14 VREF+ (in), 15 AGND (power), 16 DGND (power), 17 SPEED ADJ, 18 DB9 (hiz), 19 DB8 (hiz), 20 DB7 (hiz), 21 NC, 22 DB6 (hiz), 23 DB5 (hiz), 24 DB4 (hiz), 25 DB3 (hiz), 26 DB2 (hiz), 27 DB1 (hiz), 28 DB0 (hiz)

## ADC10664CIWM
designator U?
10-Bit 600 nS A/D Converter with Input Multiplexer and Sample/Hold; Published: 15-Apr-2002; LatestRevisionDate: 13-Apr-2006; LatestRevisionNote: IPC-7351 Footprint Added.; DatasheetVersion: Jun-1999; PackageVersion: 2000; PackageReference: M28B; Publisher: Altium Limited; PackageDescription: 28-Pin Small Outline Integrated Circuit 1.27 mm Pitch; ComponentLink1Description: Manufacturer Link; ComponentLink1URL: http://www.national.com/; ComponentLink2Description: Datasheet; ComponentLink2URL: http://www.national.com/ds.cgi/DC/ADC10662.pdf; ComponentLink3Description: URL Link1; ComponentLink3URL: http://www.national.com/pf/DC/ADC10664.html
footprint M28B_N (SOIC, 28-Leads, Body 17.9x7.5mm, Pitch 1.27mm, IPC Medium Density)
footprint M28B_L (SOIC, 28-Leads, Body 17.9x7.5mm, Pitch 1.27mm, IPC High Density)
footprint M28B_M (SOIC, 28-Leads, Body 17.9x7.5mm, Pitch 1.27mm, IPC Low Density)
3D model M28B (28-Pin Small Outline Integrated Circuit 1.27 mm Pitch)
pins: 1 DVCC (power), 2 ~{INT} (out), 3 ~{S}/H (in), 4 ~{RD} (in), 5 ~{CS} (in), 6 S0 (in), 7 S1 (in), 8 AVCC (power), 9 VREF- (in), 10 VIN0 (in), 11 VIN1 (in), 12 VIN2 (in), 13 VIN3 (in), 14 VREF+ (in), 15 AGND (power), 16 DGND (power), 17 SPEED ADJ, 18 DB9 (hiz), 19 DB8 (hiz), 20 DB7 (hiz), 21 NC, 22 DB6 (hiz), 23 DB5 (hiz), 24 DB4 (hiz), 25 DB3 (hiz), 26 DB2 (hiz), 27 DB1 (hiz), 28 DB0 (hiz)

## ADC10731CIN
designator U?
10-Bit Plus Sign Serial I/O A/D Converter with MUX, Sample/Hold and Reference; ComponentAvailability: Obsolete; Published: 15-Apr-2002; LatestRevisionDate: 06-Jun-2005; LatestRevisionNote: Stylized 3D Model Added.; DatasheetVersion: Jan-1995; PackageVersion: 2000; PackageReference: N16E; Publisher: Altium Limited; PackageDescription: DIP; 16 Leads; Row Spacing 7.62 mm; Pitch 2.54 mm; ComponentLink1Description: Manufacturer Link; ComponentLink1URL: http://www.national.com/; ComponentLink2Description: Discontinuation Notice; ComponentLink2URL: http://www.national.com/obs/obsolescence.txt; ComponentLink3Description: URL Link1; ComponentLink3URL: http://www.national.com/pf/DC/ADC10731.html
footprint N16E (DIP; 16 Leads; Row Spacing 7.62 mm; Pitch 2.54 mm)
3D model N16E (DIP; 16 Leads; Row Spacing 7.62 mm; Pitch 2.54 mm)
pins: 1 AV+ (power), 2 ~{CS} (in), 3 IN+ (in), 4 IN- (in), 5 NC, 6 PD (in), 7 DGND (power), 8 NC, 9 AGND (power), 10 VREF+ (in), 11 VREF- (in), 12 DO (out), 13 SARS (hiz), 14 CLK (in), 15 VREF OUT (out), 16 DV+ (power)

## ADC10731CIWM
designator U?
10-Bit Plus Sign Serial I/O A/D Converter with MUX, Sample/Hold and Reference; ComponentAvailability: Obsolete; Published: 15-Apr-2002; LatestRevisionDate: 13-Apr-2006; LatestRevisionNote: IPC-7351 Footprint Added.; DatasheetVersion: May-1999; PackageVersion: 2000; PackageReference: M16B; Publisher: Altium Limited; PackageDescription: 16-Pin Small Outline Integrated Circuit 1.27 mm Pitch; Code_JEDEC: MS-013-AA; Code_IPC: SOIC127P1030-16; ComponentLink1Description: Manufacturer Link; ComponentLink1URL: http://www.national.com/; ComponentLink2Description: Datasheet; ComponentLink2URL: http://www.national.com/ds.cgi/DC/ADC10731.pdf; ComponentLink3Description: Discontinuation Notice; ComponentLink3URL: http://www.national.com/obs/obsolescence.txt; ComponentLink4Description: URL Link1; ComponentLink4URL: http://www.national.com/pf/DC/ADC10731.html
footprint M16B_N (SOIC, 16-Leads, Body 10.3x7.5mm, Pitch 1.27mm, IPC Medium Density)
footprint M16B_L (SOIC, 16-Leads, Body 10.3x7.5mm, Pitch 1.27mm, IPC High Density)
footprint M16B_M (SOIC, 16-Leads, Body 10.3x7.5mm, Pitch 1.27mm, IPC Low Density)
3D model M16B (16-Pin Small Outline Integrated Circuit 1.27 mm Pitch)
pins: 1 AV+ (power), 2 ~{CS} (in), 3 IN+ (in), 4 IN- (in), 5 NC, 6 PD (in), 7 DGND (power), 8 NC, 9 AGND (power), 10 VREF+ (in), 11 VREF- (in), 12 DO (out), 13 SARS (hiz), 14 CLK (in), 15 VREF OUT (out), 16 DV+ (power)

## ADC10732CIN
designator U?
10-Bit Plus Sign Serial I/O A/D Converter with MUX, Sample/Hold and Reference; ComponentAvailability: Obsolete; Published: 15-Apr-2002; LatestRevisionDate: 06-Jun-2005; LatestRevisionNote: Stylized 3D Model Added.; DatasheetVersion: Jan-1995; PackageVersion: 2000; PackageReference: N20A; Publisher: Altium Limited; PackageDescription: DIP; 20 Leads; Row Spacing 7.62 mm; Pitch 2.54 mm; Code_JEDEC: MS-001-AD; ComponentLink1Description: Manufacturer Link; ComponentLink1URL: http://www.national.com/; ComponentLink2Description: Discontinuation Notice; ComponentLink2URL: http://www.national.com/obs/obsolescence.txt; ComponentLink3Description: URL Link1; ComponentLink3URL: http://www.national.com/pf/DC/ADC10732.html
footprint N20A (DIP; 20 Leads; Row Spacing 7.62 mm; Pitch 2.54 mm)
3D model N20A (DIP; 20 Leads; Row Spacing 7.62 mm; Pitch 2.54 mm)
pins: 1 AV+ (power), 2 CH0 (in), 3 CH1 (in), 4 NC, 5 NC, 6 NC, 7 COM (in), 8 PD (in), 9 DGND (power), 10 NC, 11 AGND (power), 12 VREF+ (in), 13 VREF- (in), 14 DO (out), 15 SARS (hiz), 16 CLK (in), 17 DI (in), 18 ~{CS} (in), 19 VREF OUT (out), 20 DV+ (power)